# Altium schematic symbol library Sensor Package.SchLib: 153 symbols (part 2 of 2)

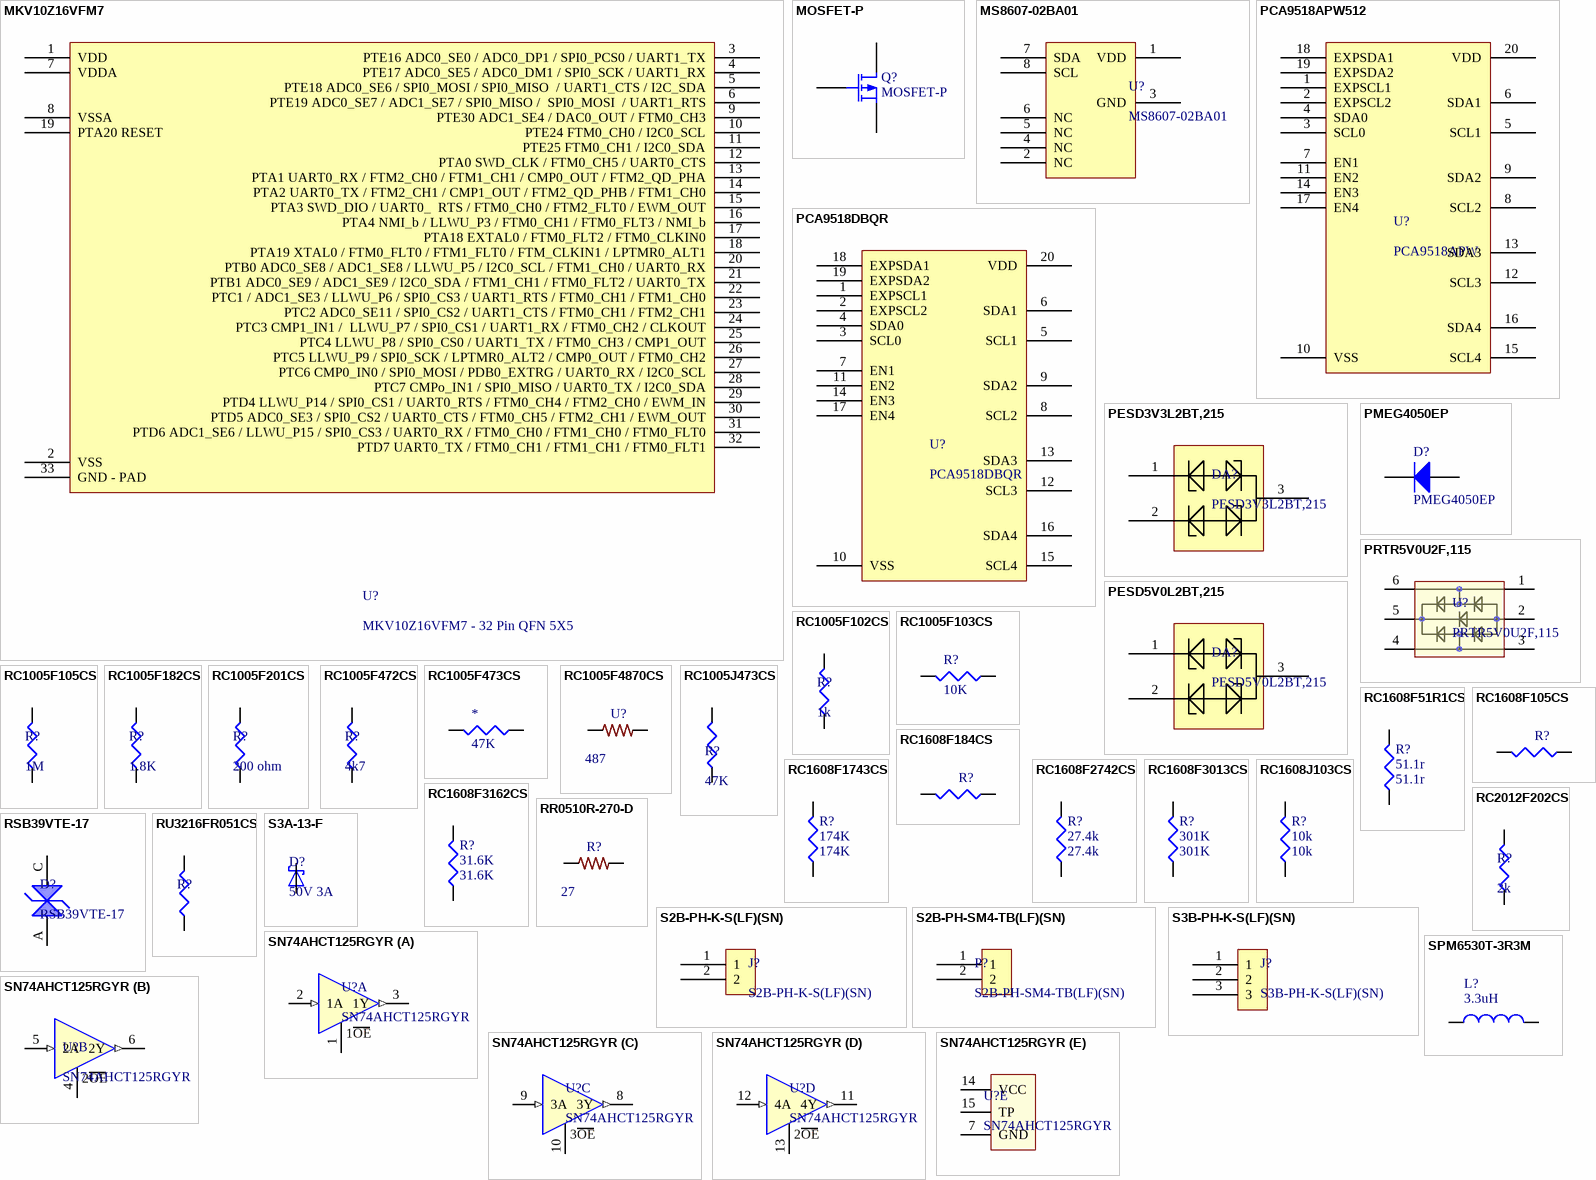
[diagram p3: symbols MKV10Z16VFM7 to SPM6530T-3R3M]

## MKV10Z16VFM7
designator U?, comment MKV10Z16VFM7 - 32 Pin QFN 5X5
IC MCU ARM Cortex M0+ 16KB 32QFN 75MHZ; MFR: FreeScale; MFR#: MKV10Z16VFM7; height: 1mm; Price: $2.50
footprint MKV10Z16VFM7 (QFN, 32-Leads, Body 5.00x5.00mm, Pitch 0.50mm, Thermal Pad 3.60x3.60mm, IPC Medium Density)
pins: 1 VDD, 2 VSS, 3 PTE16 ADC0_SE0 / ADC0_DP1 / SPI0_PCS0 / UART1_TX, 4 PTE17 ADC0_SE5 / ADC0_DM1 / SPI0_SCK / UART1_RX, 5 PTE18 ADC0_SE6 / SPI0_MOSI / SPI0_MISO  / UART1_CTS / I2C_SDA, 6 PTE19 ADC0_SE7 / ADC1_SE7 / SPI0_MISO /  SPI0_MOSI  / UART1_RTS, 7 VDDA, 8 VSSA, 9 PTE30 ADC1_SE4 / DAC0_OUT / FTM0_CH3, 10 PTE24 FTM0_CH0 / I2C0_SCL, 11 PTE25 FTM0_CH1 / I2C0_SDA, 12 PTA0 SWD_CLK / FTM0_CH5 / UART0_CTS, 13 PTA1 UART0_RX / FTM2_CH0 / FTM1_CH1 / CMP0_OUT / FTM2_QD_PHA, 14 PTA2 UART0_TX / FTM2_CH1 / CMP1_OUT / FTM2_QD_PHB / FTM1_CH0, 15 PTA3 SWD_DIO / UART0_  RTS / FTM0_CH0 / FTM2_FLT0 / EWM_OUT, 16 PTA4 NMI_b / LLWU_P3 / FTM0_CH1 / FTM0_FLT3 / NMI_b, 17 PTA18 EXTAL0 / FTM0_FLT2 / FTM0_CLKIN0, 18 PTA19 XTAL0 / FTM0_FLT0 / FTM1_FLT0 / FTM_CLKIN1 / LPTMR0_ALT1, 19 PTA20 RESET, 20 PTB0 ADC0_SE8 / ADC1_SE8 / LLWU_P5 / I2C0_SCL / FTM1_CH0 / UART0_RX, 21 PTB1 ADC0_SE9 / ADC1_SE9 / I2C0_SDA / FTM1_CH1 / FTM0_FLT2 / UART0_TX, 22 PTC1 / ADC1_SE3 / LLWU_P6 / SPI0_CS3 / UART1_RTS / FTM0_CH1 / FTM1_CH0, 23 PTC2 ADC0_SE11 / SPI0_CS2 / UART1_CTS / FTM0_CH1 / FTM2_CH1, 24 PTC3 CMP1_IN1 /  LLWU_P7 / SPI0_CS1 / UART1_RX / FTM0_CH2 / CLKOUT, 25 PTC4 LLWU_P8 / SPI0_CS0 / UART1_TX / FTM0_CH3 / CMP1_OUT, 26 PTC5 LLWU_P9 / SPI0_SCK / LPTMR0_ALT2 / CMP0_OUT / FTM0_CH2, 27 PTC6 CMP0_IN0 / SPI0_MOSI / PDB0_EXTRG / UART0_RX / I2C0_SCL, 28 PTC7 CMPo_IN1 / SPI0_MISO / UART0_TX / I2C0_SDA, 29 PTD4 LLWU_P14 / SPI0_CS1 / UART0_RTS / FTM0_CH4 / FTM2_CH0 / EWM_IN, 30 PTD5 ADC0_SE3 / SPI0_CS2 / UART0_CTS / FTM0_CH5 / FTM2_CH1 / EWM_OUT, 31 PTD6 ADC1_SE6 / LLWU_P15 / SPI0_CS3 / UART0_RX / FTM0_CH0 / FTM1_CH0 / FTM0_FLT0, 32 PTD7 UART0_TX / FTM0_CH1 / FTM1_CH1 / FTM0_FLT1, 33 GND - PAD

## MOSFET-P
designator Q?
P-Channel MOSFET; Published: 8-Jun-2000; LatestRevisionDate: 17-Jul-2002; LatestRevisionNote: Re-released for DXP Platform.; PackageVersion: 1995/1996; PackageReference: E3; Publisher: Altium Limited; PackageDescription: TO, Flat Index; 3 In-Line, Axial Leads; Body Dia. 4.6mm; Lead Dia. 0.5 mm (max)
footprint E3 (TO, Flat Index; 3 In-Line, Axial Leads; Body Dia. 4.6mm; Lead Dia. 0.5 mm (max))
simulation model PMOS (MOSFET-P)
pins: 1 D, 2 G, 3 S

## MS8607-02BA01
designator U?
PRESSURE TEMP HUMIDITY SENSOR; MFR: TE Connectivity Measurement Specialties; Pin Count #: 8; Lead-Free ?: Yes; Voltage: 3.6VDC Max; Designer: Adam Vadala-Roth; MFR #: MS8607-02BA01; Status: Active; Mounting: SMT/SMD; Datasheet: http://www.meas-spec.com/downloads/MS8607-02BA01.pdf; Height: *; Tolerance: *; Cost: *; Type: Sensor IC; Date Created: 9 Mar 2016; Last Modified: 9 Mar 2016
footprint MS8607-02BA01 - QFN125P470X300X95-8N (QFN, 8-Leads, Body 4.70x3.00mm, Pitch 1.25mm, IPC Medium Density)
pins: 1 VDD, 2 NC, 3 GND, 4 NC, 5 NC, 6 NC, 7 SDA, 8 SCL

## PCA9518APW512
designator U?, comment PCA9518APW
IC I2C HUB 5CH EXPANDBL 20-TSSOP; MFR: NXP; MFR#: PCA9518APW,512; Type: I2C Hub SOIC8; Date Added: April 2015; Digikey#: 568-4245-5-ND
footprint PCA9518APW,512 (SOIC, 20-Leads, Body 12.80x7.50mm, Pitch 1.27mm, IPC Medium Density)
pins: 1 EXPSCL1, 2 EXPSCL2, 3 SCL0, 4 SDA0, 5 SCL1, 6 SDA1, 7 EN1, 8 SCL2, 9 SDA2, 10 VSS, 11 EN2, 12 SCL3, 13 SDA3, 14 EN3, 15 SCL4, 16 SDA4, 17 EN4, 18 EXPSDA1, 19 EXPSDA2, 20 VDD

## PCA9518DBQR
designator U?
IC EXPANDABLE 5CH I2C HUB 20QSOP; MFR: Texas Instruments; Pin Count #: 20; Lead-Free ?: Yes; Voltage: 3.3V; Designer: Adam Vadala-Roth; MFR #: PCA9518DBQR; Status: Active; Mounting: SMT/SMD; Datasheet: http://www.ti.com/lit/ds/symlink/pca9518.pdf; Height: 1.75mm; Tolerance: N/A; Cost: 0.95062 @ 1000; Type: I2C Muxer; Date Created: 14 May 2016; Last Modified: 14 May 2016
footprint PCA9518DBQR (SOP, 20-Leads, Body 8.65x3.90mm, Pitch 0.64mm, Thermal Pad 5.22x3.10mm, IPC Medium Density)
pins: 1 EXPSCL1, 2 EXPSCL2, 3 SCL0, 4 SDA0, 5 SCL1, 6 SDA1, 7 EN1, 8 SCL2, 9 SDA2, 10 VSS, 11 EN2, 12 SCL3, 13 SDA3, 14 EN3, 15 SCL4, 16 SDA4, 17 EN4, 18 EXPSDA1, 19 EXPSDA2, 20 VDD

## PESD3V3L2BT,215
designator DA?
TVS DIODE 3.3VWM 26VC SOT23; MFR: NXP Semiconductors; Pin Count #: 3; Lead-Free ?: Yes; Voltage: 3.3V; Designer: Adam Vadala-Roth; MFR #: PESD3V3L2BT,215; Status: Active; Mounting: SMT/SMD; Datasheet: http://www.nxp.com/documents/data_sheet/PESDXL2BT_SER.pdf; Tolerance: N/A; Cost: 0.14067 @ 15,000; Type: Passive / Diode; Date Created: 2 Apr 2016; Last Modified: 2 Apr 2016
footprint SOT95P230X110-3N
pins: 1, 2, 3

## PESD5V0L2BT,215
designator DA?
TVS DIODE 5VWM 28VC SOT23; MFR: NXP Semiconductors; Pin Count #: 3; Lead-Free ?: Yes; Voltage: 3.3V; Designer: Adam Vadala-Roth; MFR #: PESD5V0L2BT,215; Status: Active; Mounting: SMT/SMD; Datasheet: http://www.nxp.com/documents/data_sheet/PESDXL2BT_SER.pdf; Tolerance: N/A; Cost: 0.13271 @ 15,000; Type: Passive / Diode; Date Created: 2 Apr 2016; Last Modified: 2 Apr 2016
footprint SOT95P230X110-3N
pins: 1, 2, 3

## PMEG4050EP
designator D?
PMEG4050EP , Schottky Diode; Published: 8-Jun-2000; LatestRevisionDate: 17-Jul-2002; LatestRevisionNote: Re-released for DXP Platform.; PackageVersion: Sep-1996; PackageReference: SMC; Publisher: Altium Limited; PackageDescription: DO-214-AB/SMC; 2 C-Bend Leads; Body 7.9 x 5.9 mm, inc. leads (LxW); Code_JEDEC: DO-214-AB
simulation model DIODE (Diode)
signal-integrity model Diode
footprint PMEG4050EP (Molded Diode, 2-Leads, Body 3.80x2.50mm, IPC Medium Density)
pins: 1 A, 2 K

## PRTR5V0U2F,115
designator U?
TVS DIODE 5.5VWM SOT886; MFR: NXP Semiconductors; Pin Count #: 6; Lead-Free ?: Yes; Voltage: 5.5; Designer: Adam Vadala-Roth; Status: Active; Mounting: SMT/SMD; Datasheet: http://www.nxp.com/documents/data_sheet/PRTR5V0U2F_PRTR5V0U2K.pdf; Height: 1.45mm; Tolerance: N/A; Cost: 0.14999 @ 10000; Type: ESD Protection /IC; Date Created: 3 Apr 2016; Last Modified: 3 Apr 2016
footprint SOT886
pins: 1 (power), 2 (power), 3 (power), 4 (power), 5 (power), 6 (power)

## RC1005F102CS
designator R?, comment 1k
RES SMD 1K OHM 1% 1/16W 0402; MFR #: RC1005F102CS; MFR: Samsung Electro-Mechanics America, Inc.; Pin Count #: 2; Lead-Free ?: Yes; Designer: Adam Vadala-Roth; Status: Active; Mounting: SMT/SMD; Datasheet: http://media.digikey.com/pdf/Data%20Sheets/Samsung%20PDFs/RC_Series_ds.pdf; Height: 0.4mm; Tolerance: 1%; Cost: 0.00137	 @ 10,000; Type: Passive / Chip Resistor; Voltage: 1/16W; Date Created: 2 Apr 2016; Last Modified: 2 Apr 2016; Value: 1k
footprint R0402
pins: 1, 2

## RC1005F103CS
designator R?, comment 10K
RES SMD 10K OHM 1% 1/16W 0402; MFR #: RC1005F103CS; MFR: Samsung Electro-Mechanics America, Inc.; Pin Count #: 2; Lead-Free ?: Yes; Designer: Adam Vadala-Roth; Status: Active; Mounting: SMT/SMD; Datasheet: https://media.digikey.com/pdf/Data%20Sheets/Samsung%20PDFs/RC_Series_ds.pdf; Height: 0.4mm; Tolerance: 1%; Cost: 0.00137	 @ 10000; Type: Passive / Chip Resistor; Voltage: 1/16W; Date Created: 3 Apr 2016; Last Modified: 3 Apr 2016; Value: 10K
footprint R0402
pins: 1, 2

## RC1005F105CS
designator R?, comment 1M
RES SMD 1M OHM 1% 1/16W 0402; MFR #: RC1005F105CS; MFR: Samsung Electro-Mechanics America, Inc.; Pin Count #: 2; Lead-Free ?: Yes; Designer: Adam Vadala-Roth; Status: Active; Mounting: SMT/SMD; Datasheet: https://media.digikey.com/pdf/Data%20Sheets/Samsung%20PDFs/RC_Series_ds.pdf; Height: 0.4mm; Tolerance: 1%; Cost: 0.00137	@ 10000; Type: Passive/Chip Resistor; Voltage: 1/16W; Date Created: 3 Apr 2016; Last Modified: 3 Apr 2016; Value: 1M
footprint R0402
pins: 1, 2

## RC1005F182CS
designator R?, comment 1.8K
RES SMD 1.8K OHM 1% 1/16W 0402; MFR #: RC1005F182CS; MFR: Samsung-Electro-Mechanics-America,-Inc; Pin Count #: 2; Lead-Free ?: Yes; Designer: Adam Vadala-Roth; Status: Active; Mounting: SMT/SMD; Datasheet: https://media.digikey.com/pdf/Data%20Sheets/Samsung%20PDFs/RC_Series_ds.pdf; Height: 0.4mm; Tolerance: 1%; Cost: 0.00203 @ 10K; Type: Passive/ Chip Resistor; Voltage: 1/16W; Date Created: 6 May 2016; Last Modified: 2 May 2016; Value: 1.8K
footprint R0402
pins: 1, 2

## RC1005F201CS
designator R?, comment 200 ohm
RES SMD 200 OHM 1% 1/16W 0402; MFR #: RC1005F201CS; MFR: Samsung Electro-Mechanics America, Inc.; Pin Count #: 2; Lead-Free ?: Yes; Designer: Adam Vadala-Roth; Status: Active; Mounting: SMT/SMD; Datasheet: https://media.digikey.com/pdf/Data%20Sheets/Samsung%20PDFs/RC_Series_ds.pdf; Height: 0.4mm; Tolerance: 1%; Cost: 0.00203 @ 10K; Type: Passive / Chip Resistor; Voltage: 1/16 W; Date Created: 1 May 2016; Last Modified: 1 May 2016; Value: 200 ohm
footprint R0402
pins: 1, 2

## RC1005F472CS
designator R?, comment 4k7
4.7k Ohm ±1% 0.063W, 1/16W Surface Mount Resistor Thick Film ±100ppm/°C 0402 (1005 Metric); MFR #: RC1005F472CS; MFR: Samsung Electro-Mechanics America, Inc.; Pin Count #: 2; Lead-Free ?: yes; Designer: Adam Vadala-Roth; Status: Active; Mounting: SMT/SMD; Datasheet: https://media.digikey.com/pdf/Data%20Sheets/Samsung%20PDFs/RC_Series_ds.pdf; Height: .4mm; Tolerance: 1%; Cost: 0.00137 @ 10000; Type: Passive/Chip Resistor; Voltage: 1/16 W; Date Created: 21 Apr 2016; Last Modified: 21 Apr 2016; Value: 4k7
footprint R0402
pins: 1, 2

## RC1005F473CS
designator *, comment 47K
RES SMD 47K OHM 1% 1/16W 0402; MFR #: RC1005F473CS; MFR: Samsung Electro-Mechanics America, Inc.; Pin Count #: 2; Lead-Free ?: Yes; Designer: Adam Vadala-Roth; Status: Active; Mounting: SMT/SMD; Datasheet: http://media.digikey.com/pdf/Data%20Sheets/Samsung%20PDFs/RC_Series_ds.pdf; Height: 0.4mm; Tolerance: 1%; Cost: 0.00137 @ 10000; Type: Passive / Chip Resistor; Voltage: 1/16W; Date Created: 4 Apr 2016; Last Modified: 4 Apr 2016; Value: 47K
footprint R0402
pins: 1, 2

## RC1005F4870CS
designator U?  value 487  (hidden comment: RC1005F4870CS)
RES SMD 487 OHM 1% 1/16W 0402; MFR: Samsung Electro-Mechanics America, Inc.; Pin Count #: 2; Lead-Free ?: Yes; Designer: Adam Vadala-Roth; MFR #: RC1005F4870CS; Status: Active; Mounting: SMT/SMD; Datasheet: http://industrial.panasonic.com/www-cgi/jvcr13pz.cgi?E+PZ+3+AOA0002+ERJ6ENF2001V+7+WW; Height: 0.4mm; Tolerance: 1%; Cost: 0.00203 @ 10K; Type: 0402 Passive; Voltage: *; Date Created: 11 Mar 2016; Last Modified: 11 Mar 2016
footprint R0402
pins: 1, 2

## RC1005J473CS
designator R?, comment 47K
RES SMD 47K OHM 5% 1/16W 0402; MFR #: RC1005J473CS; MFR: Samsung-Electro-Mechanics-America,-Inc.; Pin Count #: 2; Tolerance: 1%; Lead-Free ?: Yes; Designer: Adam Vadala-Roth; Status: Active; Mounting: SMT/SMD; Datasheet: https://media.digikey.com/pdf/Data%20Sheets/Samsung%20PDFs/RC_Series_ds.pdf; Height: 0.4mm; Cost: 0.00137 @ 10000; Type: Chip Resistor 0402; Voltage: 1/16W; Date Created: 15 May 2016; Last Modified: 15 May 2016; Value: 47K
footprint R0402
pins: 1, 2

## RC1608F51R1CS
designator R?, comment 51.1r
RES SMD 51.1 OHM 1% 1/10W 0603; MFR: Samsung; MFR #: RC1608F51R1CS; PackageReference: 0603; Digikey #: 1276-4543-1-ND; PDF: http://www.samsungsem.com/global/support/library/product-catalog/__icsFiles/afieldfile/2015/01/12/CHIP_RESISTOR_150112_1.pdf; Value: 51.1r
simulation model RESISTOR (Resistor)
signal-integrity model Res
footprint R0603
pins: 1, 2

## RC1608F105CS
designator R?  (value not drawn)
RES SMD 1M OHM 1% 1/10W 0603; MFR: Samsung Electro-Mechanics America, Inc.; Pin Count #: 2; Lead-Free ?: Yes; Designer: Adam Vadala-Roth; MFR #: RC1608F105CS; Status: Availble; Mounting: SMT; Datasheet: https://media.digikey.com/pdf/Data%20Sheets/Samsung%20PDFs/RC_Series_ds.pdf; Height: 0.55mm; Tolerance: 1%; Cost: $0.00167; Type: Resistor Passive; Voltage: *; Date Created: 25 Feb 2016; Last Modified: 25 Feb 2016
footprint R0603
pins: 1, 2

## RC1608F184CS
designator R?  (value not drawn)
RES SMD 180K OHM 1% 1/10W 060; MFR: Samsung Electro-Mechanics America, Inc.; Pin Count #: 2; Lead-Free ?: Yes; Designer: Adam Vadala-Roth; MFR #: RC1608F184CS; Status: Availble; Mounting: SMT; Datasheet: https://media.digikey.com/pdf/Data%20Sheets/Samsung%20PDFs/RC_Series_ds.pdf; Height: 0.55mm; Tolerance: 1%; Cost: $0.00167; Type: Resistor Passive; Voltage: *; Date Created: 25 Feb 2016; Last Modified: 25 Feb 2016
footprint R0603
pins: 1, 2

## RC1608F1743CS
designator R?, comment 174K
RES SMD 174K OHM 1% 1/10W 0603; MFR: Samsung; MFR #: RC1608F1743CS; PackageReference: 0603; Digikey #: 1276-4857-1-ND; PDF: http://www.samsungsem.com/global/support/library/product-catalog/__icsFiles/afieldfile/2015/01/12/CHIP_RESISTOR_150112_1.pdf; Value: 174K
simulation model RESISTOR (Resistor)
signal-integrity model Res
footprint R0603
pins: 1, 2

## RC1608F2742CS
designator R?, comment 27.4k
RES SMD 27.4K OHM 1% 1/10W 0603; MFR: Samsung; MFR #: RC1608F2742CS; PackageReference: 0603; Digikey #: 1276-4782-1-ND; PDF: http://www.samsungsem.com/global/support/library/product-catalog/__icsFiles/afieldfile/2015/01/12/CHIP_RESISTOR_150112_1.pdf; Value: 27.4k
simulation model RESISTOR (Resistor)
signal-integrity model Res
footprint R0603
pins: 1, 2

## RC1608F3013CS
designator R?, comment 301K
RES SMD 301K OHM 1% 1/10W 0603; MFR: Samsung; MFR #: RC1608F3013CS; PackageReference: 0603; Digikey #: 1276-4881-1-ND; PDF: http://www.samsungsem.com/global/support/library/product-catalog/__icsFiles/afieldfile/2015/01/12/CHIP_RESISTOR_150112_1.pdf; Value: 301K
simulation model RESISTOR (Resistor)
signal-integrity model Res
footprint R0603
pins: 1, 2

## RC1608F3162CS
designator R?, comment 31.6K
RES SMD 31.6K OHM 1% 1/10W 0603; MFR: Samsung; MFR #: RC1608F3162CS; PackageReference: 0603; Digikey #: 1276-4788-1-ND; PDF: http://www.samsungsem.com/global/support/library/product-catalog/__icsFiles/afieldfile/2015/01/12/CHIP_RESISTOR_150112_1.pdf; Value: 31.6K
simulation model RESISTOR (Resistor)
signal-integrity model Res
footprint R0603
pins: 1, 2

## RC1608J103CS
designator R?, comment 10k
RES SMD 10K OHM 5% 1/10W 0603; MFR: Samsung; MFR #: RC1608J103CS; PackageReference: 0603; Digikey #: 1276-5086-1-ND; PDF: http://www.samsungsem.com/global/support/library/product-catalog/__icsFiles/afieldfile/2015/01/12/CHIP_RESISTOR_150112_1.pdf; Value: 10k
simulation model RESISTOR (Resistor)
signal-integrity model Res
footprint R0603
pins: 1, 2

## RC2012F202CS
designator R?, comment 2k
RES SMD 2K OHM 1% 1/8W 0805; MFR #: RC2012F202CS; MFR: Samsung-Electro-Mechanics-America,-Inc.; Pin Count #: 2; Lead-Free ?: Yes; Designer: Adam Vadala-Roth; Status: Active; Mounting: SMT/SMD; Datasheet: https://media.digikey.com/pdf/Data%20Sheets/Samsung%20PDFs/RC_Series_ds.pdf; Height: 0.6mm; Tolerance: 1%; Cost: 0.00266 @ 5000; Type: Chip Resistor 0805; Voltage: 1/8W; Date Created: 14 May 2016; Last Modified: 14 May 2016; Value: 2k
footprint R0805
pins: 1, 2

## RR0510R-270-D
designator R?  value 27  (hidden comment: RR0510R-270-D)
RES SMD 27 OHM 0.5% 1/16W 0402; MFR: Susumu; Pin Count #: 2; Lead-Free ?: Yes; Designer: Adam Vadala-Roth; MFR #: RR0510R-270-D; Status: Active; Mounting: SMT/SMD; Datasheet: http://www.susumu-usa.com/pdf/RR_Data_Sheet.pdf; Height: 0.4mm; Tolerance: 0.5%; Cost: 0.00815 @ 10K; Type: 0402 Passive; Voltage: *; Date Created: 14 Mar 2016; Last Modified: 14 Mar 2016
footprint R0402
pins: 1, 2

## RSB39VTE-17
designator D?
TVS DIODE 30VWM SOD323; MFR: Rohm-Semiconductor; Pin Count #: 2; Lead-Free ?: Yes; Voltage: 30V; Designer: Adam Vadala-Roth; MFR #: RSB39VTE-17; Status: Active; Mounting: SMT/SMD; Datasheet: http://rohmfs.rohm.com/en/products/databook/datasheet/discrete/diode/zener/rsb39v.pdf; Height: 0.9mm; Tolerance: *; Cost: 0.07326 @ 6K; Type: TVS Diode; Date Created: 6 May 2016; Last Modified: 6 May 2016
footprint RSB39VTE-17 (SOD323-R)
pins: A (power), C (power)

## RU3216FR051CS
designator R?  (value not drawn)
RES SMD 0.051 OHM 1% 1/2W 1206 Current Sense Resistor*; MFR: Samsung Electro-Mechanics America, Inc.; Pin Count #: 2; Lead-Free ?: Yes; Designer: Adam Vadala-Roth; MFR #: RU3216FR051CS; Status: Available; Mounting: SMT; Datasheet: https://media.digikey.com/pdf/Data%20Sheets/Samsung%20PDFs/RU_Series_ds.pdf; Height: 0.7mm; Tolerance: 1%; Cost: 0.03300; Type: Resistor / Passive; Voltage: *; Date Created: 25 Feb 2016; Last Modified: 25 Feb 2016
footprint R1206
pins: 1, 2

## S2B-PH-K-S(LF)(SN)
designator J?
CONN HEADER PH SIDE 2POS 2MM; MFR: JST; Pin Count #: 2; Lead-Free ?: Yes; Designer: Adam Vadala-Roth; MFR #: S2B-PH-K-S(LF)(SN); Status: Available; Mounting: Throughhole; Datasheet: http://www.jst-mfg.com/product/pdf/eng/ePH.pdf; Height: *; Tolerance: *; Cost: $0.17; Type: Connector 2mm Pitch Shrouded Pin; Voltage: *; Date Created: 26 Feb 2016; Last Modified: 26 Feb 2016
footprint S2B-PH-K-S(LF)(SN)
pins: 1, 2

## S2B-PH-SM4-TB(LF)(SN)
designator P?
CONN HEADER PH SIDE 2POS 2MM SMD; MFR: JST; Pin Count #: 2; Lead-Free ?: YEs; Designer: Adam Vadala-Roth; MFR #: S2B-PH-SM4-TB(LF)(SN); Status: Available; Mounting: SMT; Datasheet: http://www.jst-mfg.com/product/pdf/eng/ePH.pdf; Height: 6.6mm; Cost: 0.22; Type: 2mm Pith Shroaded Pin Male Header; Voltage: *; Date Created: 25 Feb 2016; Last Modified: 25 Feb 2016
footprint S2B-PH-SM4-TB(LF)(SN) (CONN HEADER PH SIDE 2POS 2MM SMD)
pins: 1, 2

## S3A-13-F
designator D?, comment 50V 3A
DIODE GEN PURP 50V 3A SMC; MFR #: S3A-13-F; MFR: Diodes-Incorporated; Pin Count #: 2; Type: Clamping Diode; Lead-Free ?: Yes; Designer: Adam Vadala-Roth; Status: Active; Mounting: SMT/SMD; Datasheet: http://www.diodes.com/_files/datasheets/ds16005.pdf; Height: 2.5mm; Tolerance: *; Cost: 15,000 @ 0.11600; Voltage: 50V; Date Created: 6 May 2016; Last Modified: 6 May 2016; Value: 50V 3A
footprint S3A-13-F (S3A-13-F  DO-214AB)
pins: A, C

## S3B-PH-K-S(LF)(SN)
designator J?
CONN HEADER PH SIDE 2POS 2MM; MFR: JST; Pin Count #: 3; Lead-Free ?: Yes; Designer: Adam Vadala-Roth; MFR #: S3B-PH-K-S(LF)(SN); Status: Available; Mounting: Throughhole; Datasheet: http://www.jst-mfg.com/product/pdf/eng/ePH.pdf; Height: *; Tolerance: *; Cost: $0.17; Type: Connector 2mm Pitch Shrouded Pin; Voltage: *; Date Created: 11 Mar 2016; Last Modified: 11 Mar 2016
footprint S3B-PH-K-S(LF)(SN) (3 Pin right angle 2mm pitch shrouded male pin connector)
pins: 1, 2, 3

## SN74AHCT125RGYR
designator U?
IC BUS BUFFER TRI-ST QD 14VQFN; MFR: Texas Instruments; Pin Count #: 15; Lead-Free ?: Yes; Voltage: 3.3V / 5V; Designer: Adam Vadala-Roth; MFR #: SN74AHCT125RGYR; Status: Active; Mounting: SMT/SMD; Datasheet: http://www.ti.com/lit/ds/symlink/sn74ahct125.pdf; Height: 1mm; Tolerance: *; Cost: 0.116 @ 15K; Type: 74 Logic IC; Date Created: 6 May 2016; Last Modified: 6 May 2016
footprint SN74AHCT125RGYR (QFN, 14-Leads, Body 3.50x3.50mm, Pitch 1.50mm/0.50mm, Thermal Pad 2.05x2.05mm, IPC High Density)
part A pins: 1 1OE (power), 2 1A (in), 3 1Y (out)
part B pins: 4 2OE (power), 5 2A (in), 6 2Y (out)
part C pins: 8 3Y (out), 9 3A (in), 10 3OE (power)
part D pins: 11 4Y (out), 12 4A (in), 13 4OE (power)
part E pins: 7 GND (power), 14 VCC (power), 15 TP (power)

## SPM6530T-3R3M
designator L?  value 3.3uH  (hidden comment: SPM6530T-3R3M)
FIXED IND 3.3UH 6.8A 29.7 MOHM; MFR: TDK Corporation; Published: Feb 2016; LatestRevisionDate: Feb 2016; PackageReference: Custom Wound INductor; Publisher: Adam Vadala-Roth; PackageDescription: Wire Wound Inductor Package; MFR#: SPM6530T-3R3M
signal-integrity model Inductor
footprint SPM6530T-3R3M - INDP7165X30N (Precision Wire Wound Inductor, 2-Leads, Body 7.10x6.50mm, IPC Medium Density)
pins: 1, 2

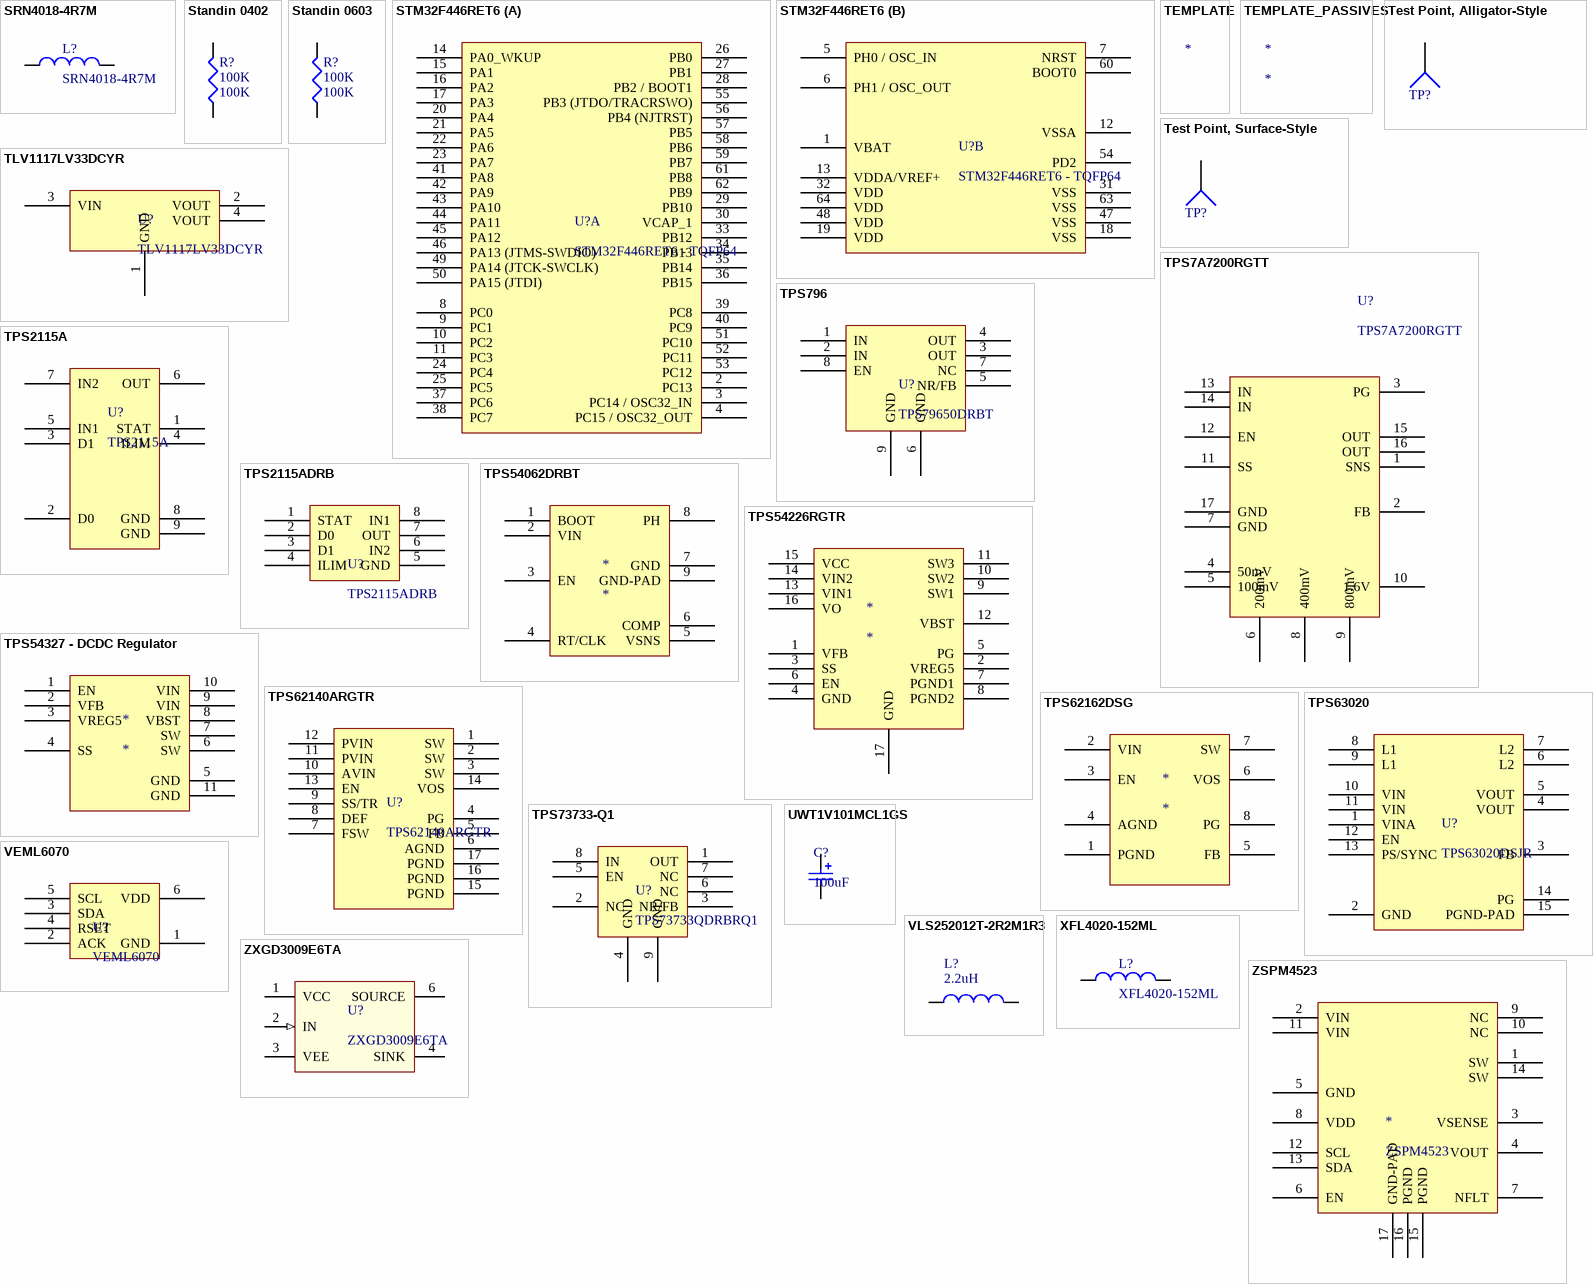
[diagram p4: symbols SRN4018-4R7M to ZXGD3009E6TA]

## SRN4018-4R7M
designator L?
FIXED IND 4.7UH 1.9A 84 MOHM SMD; MFR: Bourns; Pin Count #: 2; Tolerance: +/-20%; Type: Inductor/Passive; Lead-Free ?: Yes; Designer: Adam Vadala-Roth; MFR #: SRN4018-4R7M; Status: Available; Mounting: SMT; Datasheet: http://www.bourns.com/docs/Product-Datasheets/SRN4018.pdf; Height: 1.8mm; Cost: $0.13300; Voltage: *; Date Created: 25 Feb 2016; Last Modified: 25 Feb 2016
footprint SRN4018-4R7M - INDP4040X18N (Precision Wire Wound Inductor, 2-Leads, Body 4.00x4.00mm, IPC Medium Density)
pins: 1, 2

## Standin 0402
designator R?, comment 100K
Standin 0402; MFR #: Standin O603; PackageReference: 0603; MFR: N/A; Digikey #: P100KHCT-ND; PDF: http://industrial.panasonic.com/www-cgi/jvcr13pz.cgi?E+PZ+3+AOA0002+ERJ3EKF1003V+7+WW; Value: 100K
simulation model RESISTOR (Resistor)
signal-integrity model Res
footprint R0402
pins: 1, 2

## Standin 0603
designator R?, comment 100K
Standin; MFR #: Standin O603; PackageReference: 0603; MFR: N/A; Digikey #: P100KHCT-ND; PDF: http://industrial.panasonic.com/www-cgi/jvcr13pz.cgi?E+PZ+3+AOA0002+ERJ3EKF1003V+7+WW; Value: 100K
simulation model RESISTOR (Resistor)
signal-integrity model Res
footprint R0603
pins: 1, 2

## STM32F446RET6
designator U?, comment STM32F446RET6 - TQFP64
MFR: ST Microelectronics; Pin Count #: 64; Lead-Free ?: Yes; Voltage: 1.8-3.3V; Designer: Adam Vadala-Roth; MFR #: STM32F446RET6; Status: Active; Mounting: SMT/SMD; Datasheet: http://www.st.com/web/en/resource/technical/document/datasheet/DM00037051.pdf; Height: *; Tolerance: N/A; Cost: *; Type: ARM Cortex M4 Microcontroller; Date Created: 27 Mar 2016; Last Modified: 27 Mar 2016
footprint STM32F446RET6 - TSQFP50P1200X1200X160-64N (TSQFP, 64-Leads, Body 10.00x10.00mm, Pitch 0.50mm, IPC Medium Density)
part A pins: 2 PC13, 3 PC14 / OSC32_IN, 4 PC15 / OSC32_OUT, 8 PC0, 9 PC1, 10 PC2, 11 PC3, 14 PA0_WKUP, 15 PA1, 16 PA2, 17 PA3, 20 PA4, 21 PA5, 22 PA6, 23 PA7, 24 PC4, 25 PC5, 26 PB0, 27 PB1, 28 PB2 / BOOT1, 29 PB10, 30 VCAP_1, 33 PB12, 34 PB13, 35 PB14, 36 PB15, 37 PC6, 38 PC7, 39 PC8, 40 PC9, 41 PA8, 42 PA9, 43 PA10, 44 PA11, 45 PA12, 46 PA13 (JTMS-SWDIO), 49 PA14 (JTCK-SWCLK), 50 PA15 (JTDI), 51 PC10, 52 PC11, 53 PC12, 55 PB3 (JTDO/TRACRSWO), 56 PB4 (NJTRST), 57 PB5, 58 PB6, 59 PB7, 61 PB8, 62 PB9
part B pins: 1 VBAT, 5 PH0 / OSC_IN, 6 PH1 / OSC_OUT, 7 NRST, 12 VSSA, 13 VDDA/VREF+, 18 VSS, 19 VDD, 31 VSS, 32 VDD, 47 VSS, 48 VDD, 54 PD2, 60 BOOT0, 63 VSS, 64 VDD

## TEMPLATE
designator *
Designer: Adam Vadala-Roth; MFR #: *; MFR: *; Status: *; Pin Count #: *; Mounting: *; Datasheet: *; Height: *; Tolerance: *; Cost: *; Type: *; Lead-Free ?: *; Voltage: *; Date Created: *; Last Modified: *

## TEMPLATE_PASSIVES
designator *
Pin Count #: 2; Designer: Adam Vadala-Roth; MFR #: *; MFR: *; Status: *; Mounting: SMT/SMD; Datasheet: *; Height: *; Tolerance: *; Cost: *; Type: *; Lead-Free ?: *; Voltage: *; Date Created: *; Last Modified: *; Value: *

## Test Point, Alligator-Style
designator TP?, comment Test-Point  (value not drawn)
Socket; LatestRevisionDate: 17-Jul-2002; LatestRevisionNote: Re-released for DXP Platform.; Publisher: Altium Limited
signal-integrity model Connector
footprint Alligator-TP
pins: 1

## Test Point, Surface-Style
designator TP?, comment Test-Point  (value not drawn)
Socket; LatestRevisionDate: 17-Jul-2002; LatestRevisionNote: Re-released for DXP Platform.; Publisher: Altium Limited
signal-integrity model Connector
footprint TP-2
pins: 1

## TLV1117LV33DCYR
designator U?
IC REG LDO 3.3V 1A SOT223; MFR: Texs Instruments; Pin Count #: 3; Lead-Free ?: Yes; Voltage: 5.5V In 3.3v Out; Designer: Adam Vadala-Roth; MFR #: TLV1117LV33DCYR; Status: Active; Mounting: SMT/SMD; Datasheet: http://www.ti.com/lit/ds/symlink/tlv1117lv.pdf; Height: 1.8mm; Tolerance: *; Cost: 0.27 @ 1000; Type: LDO Low Drop Out Regulators / Voltage Regulator; Date Created: 6 May 2016; Last Modified: 6 May 2016
footprint TLV1117LV - SOT230P700X180-4N (SOT223, 4-Leads, Body 6.50x7.00mm (avg), Pitch 2.30mm, IPC Medium Density)
pins: 1 GND, 2 VOUT, 3 VIN, 4 VOUT

## TPS7A7200RGTT
designator U?
footprint QFN50P300X300X100_HS-17N (QFN, 16-Leads, Body 3.00x3.00mm, Pitch 0.50mm, Thermal Pad 1.70x1.70mm, IPC Medium Density)
pins: 1 SNS, 2 FB, 3 PG, 4 50mV, 5 100mV, 6 200mV, 7 GND, 8 400mV, 9 800mV, 10 1.6V, 11 SS, 12 EN, 13 IN, 14 IN, 15 OUT, 16 OUT, 17 GND

## TPS796
designator U?, comment TPS79650DRBT
footprint QFN65P300X300X100_HS-17N (QFN, 16-Leads, Body 3.00x3.00mm, Pitch 0.65mm, Thermal Pad 2.40x1.65mm, IPC Medium Density)
pins: 1 IN, 2 IN, 3 OUT, 4 OUT, 5 NR/FB, 6 GND, 7 NC, 8 EN, 9 GND

## TPS2115A
designator U?
footprint DRB S-PVSON-N8 (QFN, 16-Leads, Body 3.00x3.00mm, Pitch 0.65mm, Thermal Pad 2.40x1.65mm, IPC Medium Density)
pins: 1 STAT, 2 D0, 3 D1, 4 ILIM, 5 IN1, 6 OUT, 7 IN2, 8 GND, 9 GND

## TPS2115ADRB
designator U?
MFR: Texas Instruments; Designer: Adam J Vadala-Roth; Date Created: 24-Feb-2016; MFR#: TPS2115ADRB; Type: Power Muxing IC with Autoswitching; Pin Count: 8; Height: *; Digikey Part #: 296-23394-2-ND; Price: $0.84 QTY=3000; Package: 8-VDFN Exposed Pad; Mounting: SMT/SMD
footprint TPS2115ADRB - QFN65P300X300X100_HS-9N (QFN, 8-Leads, Body 3.00x3.00mm, Pitch 0.65mm, Thermal Pad 1.65x2.40mm, IPC Medium Density)
pins: 1 STAT, 2 D0, 3 D1, 4 ILIM, 5 GND, 6 IN2, 7 OUT, 8 IN1

## TPS54062DRBT
designator *
IC REG BUCK SYNC ADJ 50MA DRBT; MFR#: TPS54062DRBT; MFR: Texas Instruments; Type: DCDC Switching Step Down Regulator IC
footprint QFN65P300X300X100_HS-17N (QFN, 16-Leads, Body 3.00x3.00mm, Pitch 0.65mm, Thermal Pad 1.65x2.40mm, IPC Medium Density)
pins: 1 BOOT, 2 VIN, 3 EN, 4 RT/CLK, 5 VSNS, 6 COMP, 7 GND, 8 PH, 9 GND-PAD

## TPS54226RGTR
designator *
TPS54226RGTR
footprint TPS54226  QFN50P300X300X100_HS-17N (QFN, 16-Leads, Body 3.00x3.00mm, Pitch 0.50mm, Thermal Pad 1.66x1.66mm, IPC Medium Density)
pins: 1 VFB, 2 VREG5, 3 SS, 4 GND, 5 PG, 6 EN, 7 PGND1, 8 PGND2, 9 SW1, 10 SW2, 11 SW3, 12 VBST, 13 VIN1, 14 VIN2, 15 VCC, 16 VO, 17 GND

## TPS54327 - DCDC Regulator
designator *
footprint TPS54327 (QFN, 18-Leads, Body 3.00x3.00mm, Pitch 0.50mm, Thermal Pad 2.40x1.65mm, IPC Medium Density)
pins: 1 EN, 2 VFB, 3 VREG5, 4 SS, 5 GND, 6 SW, 7 SW, 8 VBST, 9 VIN, 10 VIN, 11 GND

## TPS62140ARGTR
designator U?
IC REG BUCK ADJ 2A SYNC 16QFN; MFR: Texas Instruments; Pin Count #: 17; Lead-Free ?: Yes; Voltage: 2-10VDC; Designer: Adam Vadala-Roth; MFR #: TPS62140ARGTR; Status: Active; Mounting: SMT/SMD; Datasheet: http://www.ti.com/lit/ds/symlink/tps62140a.pdf; Height: 1mm; Tolerance: *; Cost: 0.99 @ 1000; Type: DCDC Switchign Buck Converter / Voltage Regulator; Date Created: 6 May 2016; Last Modified: 6 May 2016
footprint TPS62140ARGTR (QFN, 16-Leads, Body 3.00x3.00mm, Pitch 0.50mm, Thermal Pad 1.70x1.70mm, IPC Medium Density)
pins: 1 SW, 2 SW, 3 SW, 4 PG, 5 FB, 6 AGND, 7 FSW, 8 DEF, 9 SS/TR, 10 AVIN, 11 PVIN, 12 PVIN, 13 EN, 14 VOS, 15 PGND, 16 PGND, 17 PGND

## TPS62162DSG
designator *
footprint TPS62162DSG (QFN, 16-Leads, Body 2.00x2.00mm, Pitch 0.50mm, Thermal Pad 0.90x1.60mm, IPC Medium Density)
pins: 1 PGND, 2 VIN, 3 EN, 4 AGND, 5 FB, 6 VOS, 7 SW, 8 PG

## TPS63020
designator U?, comment TPS63020DSJR
IC REG BUCK BST ADJ 3.5A 14VSON; MFR: Texas Instruments; Designer: Adam J Vadala-Roth; Descrition: IC REG BUCK BST ADJ 3.5A 14VSON; Date Created: 24 Feb 2016; MFR#: TPS63020DSJR; Price: $1.46 @ 3000; Mounting: SMT; Digikey #: 296-36491-2-ND; Height: *; Type: IC
footprint TPS63020 - QFN50P400X300X100-22N (QFN, 22-Leads, Body 4.00x3.00mm, Pitch 0.50mm, IPC Medium Density)
pins: 1 VINA, 2 GND, 3 FB, 4 VOUT, 5 VOUT, 6 L2, 7 L2, 8 L1, 9 L1, 10 VIN, 11 VIN, 12 EN, 13 PS/SYNC, 14 PG, 15 PGND-PAD

## TPS73733-Q1
designator U?, comment TPS73733QDRBRQ1
footprint QFN65P300X300X100_HS-17N - smaller pad (QFN, 16-Leads, Body 3.00x3.00mm, Pitch 0.65mm, Thermal Pad 1.75x1.50mm, IPC Medium Density)
pins: 1 OUT, 2 NC, 3 NR/FB, 4 GND, 5 EN, 6 NC, 7 NC, 8 IN, 9 GND

## UWT1V101MCL1GS
designator C?, comment 100uF
CAP ALUM 100UF 20% 35V SMD; MFR #: UWT1V101MCL1GS; MFR: Nichion; Pin Count #: 2; Type: Passe/Capactitor Aluminum; Lead-Free ?: Yes; Designer: Adam Vadala-Roth; Status: Active; Mounting: SMT/SMD; Datasheet: http://nichicon-us.com/english/products/pdfs/e-uwt.pdf; Height: 7.2mm; Tolerance: 20%; Cost: 0.07701 @ 4500; Voltage: 35V; Date Created: 6 May 2016; Last Modified: 6 May 2016; Value: 100uF
pins: 1, 2

## VEML6070
designator U?
IC UV LIGHT SENSOR I2C 8OPLGA; MFR: Vishay; Pin Count #: 8; Lead-Free ?: Yes; Voltage: 1.7-5.5VDC; Designer: Adam Vadala-Roth; MFR #: VEML6070; Status: Active; Mounting: SMT/SMD; Datasheet: http://www.vishay.com/docs/84277/veml6070.pdf; Height: 1; Tolerance: *; Cost: *; Type: IC , Dual Flat Package No Leads; Date Created: 9 Mar 2016; Last Modified: 9 Mar 2016
footprint VEML6070 - QFN60P180X235X110-6N (QFN, 6-Leads, Body 1.80x2.35mm, Pitch 0.60mm, IPC Medium Density)
pins: 1 GND, 2 ACK, 3 SDA, 4 RSET, 5 SCL, 6 VDD

## VLS252012T-2R2M1R3
designator L?  value 2.2uH  (hidden comment: VLS252012T-2R2M1R3)
MFR: TDK Corporation; Published: April 2015; LatestRevisionDate: April 2015; LatestRevisionNote: IPC-7351 Footprint Added.; PackageReference: Custom Wound INductor; Publisher: Adam Vadala-Roth; PackageDescription: Wire Wound Inductor Package; MFR#: VLS252012T-2R2M1R3
signal-integrity model Inductor
pins: 1, 2

## XFL4020-152ML
designator L?
Coilcraft XFL4020-152ML Shielded Power Inductor 2.2uH; Pin Count #: 2; Type: Wire Wound Inductor; Lead-Free ?: Yes; Designer: Adam Vadala-Roth; MFR #: Coilcraft; MFR: Coilcraft; Status: Available; Mounting: SMT; Datasheet: http://www.coilcraft.com/pdfs/xfl4020.pdf; Height: 2.10mm; Tolerance: *; Cost: $0.45 @5000; Voltage: *; Date Created: 25 Feb 2016; Last Modified: 25 Feb 2016
footprint XFL4020-152ML - INDP4040X21N (Precision Wire Wound Inductor, 2-Leads, Body 4.00x4.00mm, IPC Medium Density)
pins: 1, 2

## ZSPM4523
designator *
ZSPM4523 Charge Controller; MFR: ZMDI; Designer: Adam J Vadala-Roth; MFR #: ZSPM4523; Pins: 16; Type: IC; Date Created: 24-Feb-2016; Mounting: SMT; Package: QFN; Price: *
footprint ZSPM4523 - QFN65P400X400X100_HS-17N (QFN, 16-Leads, Body 4.00x4.00mm, Pitch 0.65mm, Thermal Pad 2.68x2.68mm, IPC Medium Density)
pins: 1 SW, 2 VIN, 3 VSENSE, 4 VOUT, 5 GND, 6 EN, 7 NFLT, 8 VDD, 9 NC, 10 NC, 11 VIN, 12 SCL, 13 SDA, 14 SW, 15 PGND, 16 PGND, 17 GND-PAD

## ZXGD3009E6TA
designator U?
IC GATE DRVR IGBT/MOSFET SOT23-6; MFR: Diodes-Incorporated; Pin Count #: 6; Lead-Free ?: Yes; Voltage: 40V MAX; Designer: Adam Vadala-Roth; MFR #: ZXGD3009E6TA; Status: Active; Mounting: SMT/SMD; Datasheet: http://www.diodes.com/_files/datasheets/ZXGD3009E6.pdf; Height: 1.3mm; Tolerance: *; Cost: 0.121 @ 6K; Type: MOSFET Gate Driver IC; Date Created: 6 May 2016; Last Modified: 6 May 2016
footprint ZXGD3009E6TA (SOT26P285X140-6L)
pins: 1 VCC (power), 2 IN (in), 3 VEE (power), 4 SINK (power), 6 SOURCE (power)